# Altium schematic symbol library CN_1P-4F-SB5-2.Schlib: 1 symbol
Pins are listed as number, name and electrical type; pins without a type are passive.

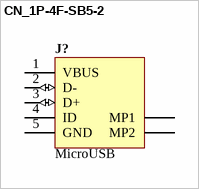
[diagram p0: symbol CN_1P-4F-SB5-2]

## CN_1P-4F-SB5-2
designator J?, comment MicroUSB
MicroUSB, Micro USB, 5Pin
pins: 1 VBUS (power), 2 D- (io), 3 D+ (io), 4 ID, 5 GND (power), MP1, MP2